# Altium schematic symbol library SCH - MCU - ATMEGA - MICROCHIP AT90CAN128-16AI TQFP64.SchLib: 1 symbol
Pins are listed as number, name and electrical type; pins without a type are passive.

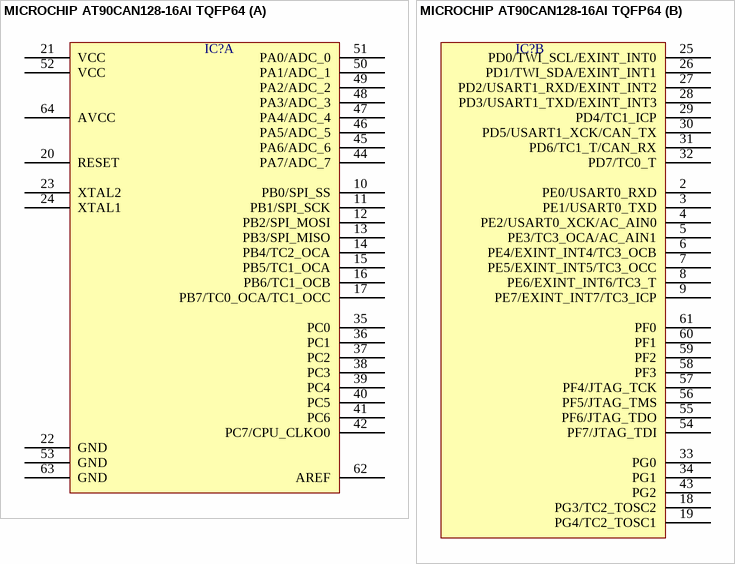
[diagram p0: symbol MICROCHIP AT90CAN128-16AI TQFP64]

## MICROCHIP AT90CAN128-16AI TQFP64
designator IC?  (value not drawn)
part A pins: 10 PB0/SPI_SS, 11 PB1/SPI_SCK, 12 PB2/SPI_MOSI, 13 PB3/SPI_MISO, 14 PB4/TC2_OCA, 15 PB5/TC1_OCA, 16 PB6/TC1_OCB, 17 PB7/TC0_OCA/TC1_OCC, 20 RESET, 21 VCC, 22 GND, 23 XTAL2, 24 XTAL1, 35 PC0, 36 PC1, 37 PC2, 38 PC3, 39 PC4, 40 PC5, 41 PC6, 42 PC7/CPU_CLKO0, 44 PA7/ADC_7, 45 PA6/ADC_6, 46 PA5/ADC_5, 47 PA4/ADC_4, 48 PA3/ADC_3, 49 PA2/ADC_2, 50 PA1/ADC_1, 51 PA0/ADC_0, 52 VCC, 53 GND, 62 AREF, 63 GND, 64 AVCC
part B pins: 2 PE0/USART0_RXD, 3 PE1/USART0_TXD, 4 PE2/USART0_XCK/AC_AIN0, 5 PE3/TC3_OCA/AC_AIN1, 6 PE4/EXINT_INT4/TC3_OCB, 7 PE5/EXINT_INT5/TC3_OCC, 8 PE6/EXINT_INT6/TC3_T, 9 PE7/EXINT_INT7/TC3_ICP, 18 PG3/TC2_TOSC2, 19 PG4/TC2_TOSC1, 25 PD0/TWI_SCL/EXINT_INT0, 26 PD1/TWI_SDA/EXINT_INT1, 27 PD2/USART1_RXD/EXINT_INT2, 28 PD3/USART1_TXD/EXINT_INT3, 29 PD4/TC1_ICP, 30 PD5/USART1_XCK/CAN_TX, 31 PD6/TC1_T/CAN_RX, 32 PD7/TC0_T, 33 PG0, 34 PG1, 43 PG2, 54 PF7/JTAG_TDI, 55 PF6/JTAG_TDO, 56 PF5/JTAG_TMS, 57 PF4/JTAG_TCK, 58 PF3, 59 PF2, 60 PF1, 61 PF0